# Altium schematic symbol library 按键开关.SchLib: 1 symbol
Pins are listed as number, name and electrical type; pins without a type are passive.

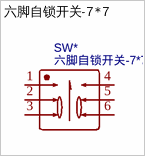
[diagram p0: symbol 六脚自锁开关-7*7]

## 六脚自锁开关-7*7
designator SW*
BOM_Manufacturer: XKB Enterprise; BOM_Manufacturer Part: XKB7070-Z-92; Contributor: LCSC; BOM_Supplier: LCSC; BOM_Supplier Part: C318862; BOM_JLCPCB Part Class: Extended Part; spicePre: S; spiceSymbolName: XKB7070-Z-92
footprint KFT DIP-7X7 (自锁开关，规格：7*7mm)
pins: 1, 2, 3, 4, 5, 6